# Altium footprint library lowfddiode.PcbLib: 1 footprints
Each footprint in its own frame and in the unit in brackets; x right, y up, seen from the top. Pads: shape width x height; smd on the part's side, far side on the other; paste and mask are expansions set on the pad; w line width, h text height; cw(c..) or ccw(c..) is an arc to the next point about the centre after c.
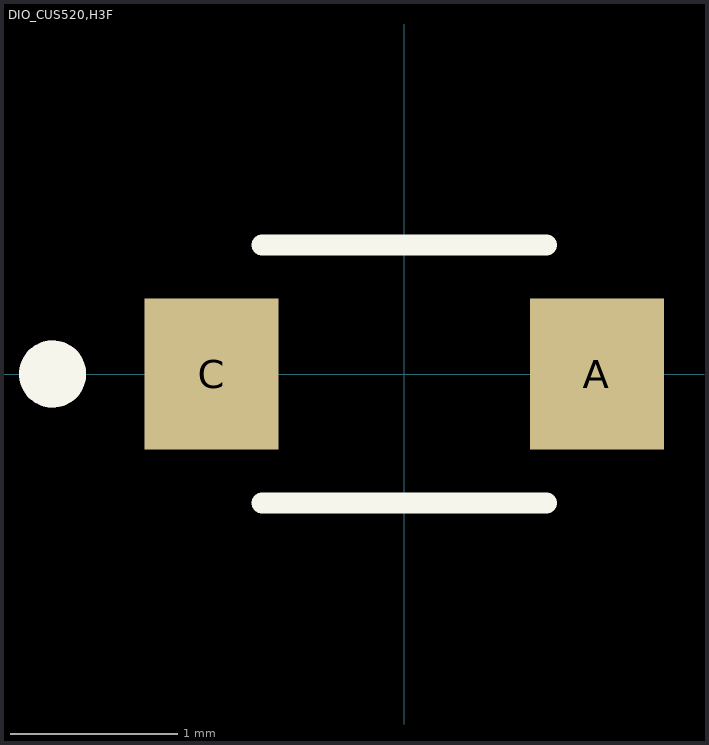
[diagram p0: the footprint, top view; thin cyan lines are the x and y axes]

## DIO_CUS520,H3F [mm]
pads (2):
  rect 0.8x0.9 smd: A(1.15,0) C(-1.15,0)
Top Overlay:
  circle w0.2: c-2.1,0 r0.1
  lines w0.127: -0.85,-0.77 0.85,-0.77 ; -0.85,0.77 0.85,0.77
Mechanical 13:
  circle w0.2: c-2.1,0 r0.1
3D body "CUS520,H3F.STEP": height 1.14, standoff -0.01, extent -1.25,-0.625 1.25,0.625